# Altium schematic symbol library TinyPICO.SchLib: 1 symbol
Pins are listed as number, name and electrical type; pins without a type are passive.

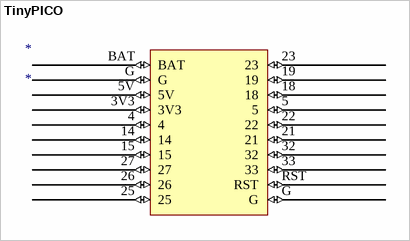
[diagram p0: symbol TinyPICO]

## TinyPICO
designator *
footprint TinyPICO Board
pins: 3V3 (io), 4 (io), 5 (io), 5V (io), 14 (io), 15 (io), 18 (io), 19 (io), 21 (io), 22 (io), 23 (io), 25 (io), 26 (io), 27 (io), 32 (io), 33 (io), BAT (io), G (io), G (io), RST (io)